# EAGLE library part ITS1A (library mynixies)
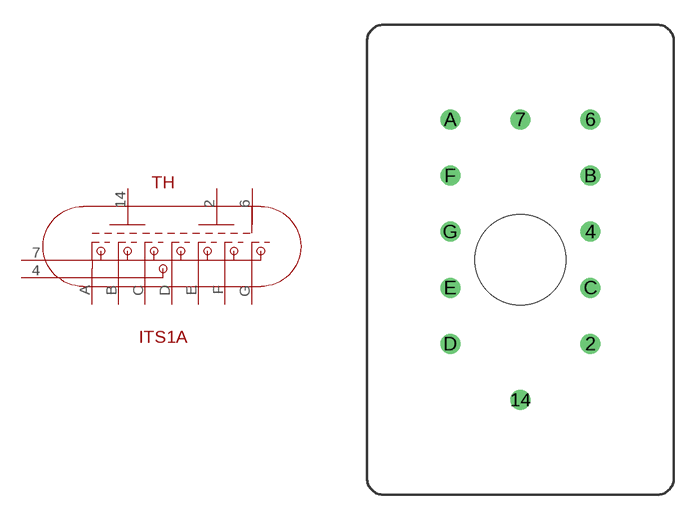
[diagram p13: symbol with the pads of ITS1A; footprint ITS1A]

Designator prefix TH

## ITS1A  [ITS1A]
2  2  pwr
4  4  pwr
6  6  pas
7  7  pwr
14  14  pwr
A  A  pas
B  B  pas
C  C  pas
D  D  pas
E  E  pas
F  F  pas
G  G  pas

## Footprint ITS1A (pad centres in mm)
drill 0.7: 2 4.25,-5.1; 4 4.25,1.7; 6 4.25,8.5; 7 0,8.5; 14 0,-8.5; A -4.25,8.5; B 4.25,5.1; C 4.25,-1.7; D -4.25,-5.1; E -4.25,-1.7; F -4.25,5.1; G -4.25,1.7
hole 5.5 at 0,0